# Altium footprint library CN_PWR_FCR681465P.PcbLib: 1 footprints
Each footprint in its own frame and in the unit in brackets; x right, y up, seen from the top. Pads: shape width x height; smd on the part's side, far side on the other; paste and mask are expansions set on the pad; w line width, h text height; cw(c..) or ccw(c..) is an arc to the next point about the centre after c.
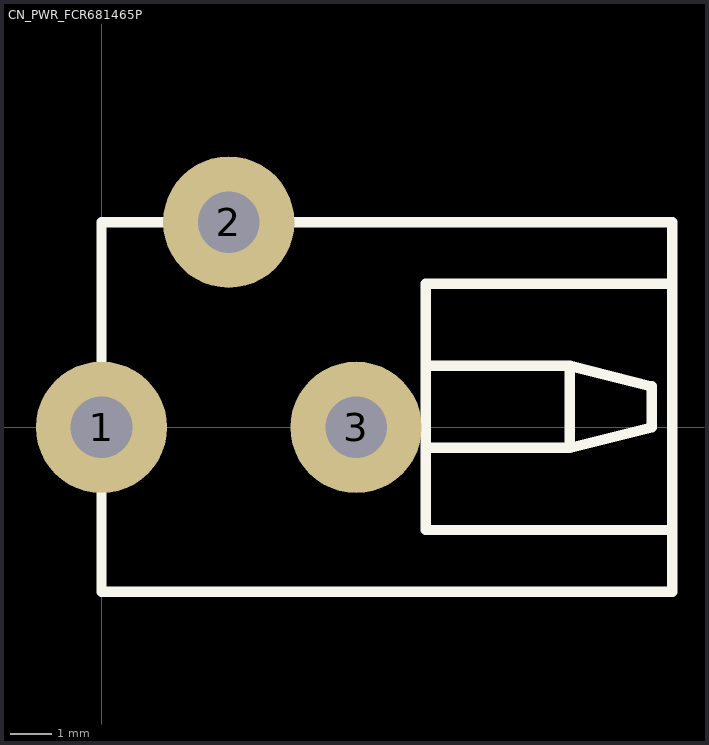
[diagram p0: the footprint, top view; thin cyan lines are the x and y axes]

## CN_PWR_FCR681465P [mm] "DC SKT, DUAL, 2.1/2.5MM, PCB, DC10L"
pads (3):
  round 3.2 hole 1.5: 1(0,0) 2(3.1,5) 3(6.2,0)
Top Overlay:
  lines w0.254: 7.9,-0.5 11.4,-0.5 ; 7.9,1.5 11.4,1.5 ; 13.9,-2.5 7.9,-2.5 7.9,3.5 13.9,3.5 ; 11.4,-0.5 11.4,1.5 ; 11.4,-0.5 13.4,0 13.4,1 11.4,1.5 ; 0,-4 0,5 13.9,5 13.9,-4 0,-4
3D body: height 11, standoff 0, extent 0,-4 14.5,5